# EAGLE library part IR2110PBF (library ir2110)
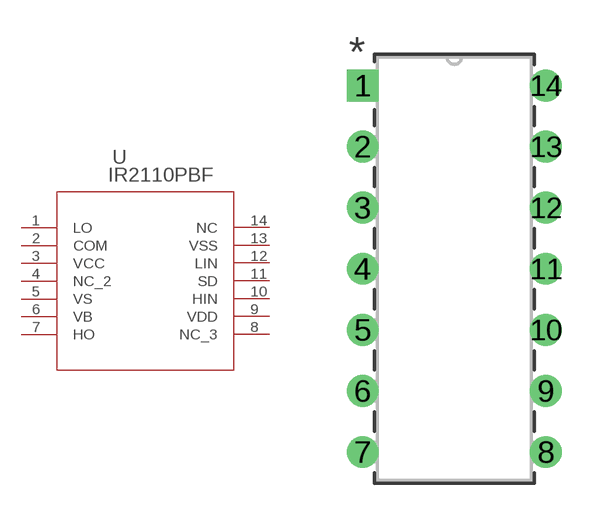
[diagram p0: symbol with the pads of PG-DIP-14-1_INF; footprint PG-DIP-14-1_INF]

Designator prefix U

## IR2110PBFPG-DIP-14-1_INF (Copyright: Copyright (C) 2023 Ultra Librarian. All rights reserved.; Manufacturer_Part_Number: IR2110PBF; Mfr_Name: Infineon)  [PG-DIP-14-1_INF]
1  LO  out
2  COM  pas
3  VCC  pwr
4  NC_2  nc
5  VS  pwr
6  VB  pwr
7  HO  out
8  NC_3  nc
9  VDD  pwr
10  HIN  in
11  SD  in
12  LIN  in
13  VSS  pwr
14  NC  nc

## Footprint PG-DIP-14-1_INF (pad centres in mm)
drill 0.813 pad 1.321 square: 1 0,0
drill 0.813 pad 1.321 round: 2 0,-2.54; 3 0,-5.08; 4 0,-7.62; 5 0,-10.16; 6 0,-12.7; 7 0,-15.24; 8 7.62,-15.24; 9 7.62,-12.7; 10 7.62,-10.16; 11 7.62,-7.62; 12 7.62,-5.08; 13 7.62,-2.54; 14 7.62,0